# EAGLE library part KLEMME_5-5 (library e-klemmen)
Klemme 5 5
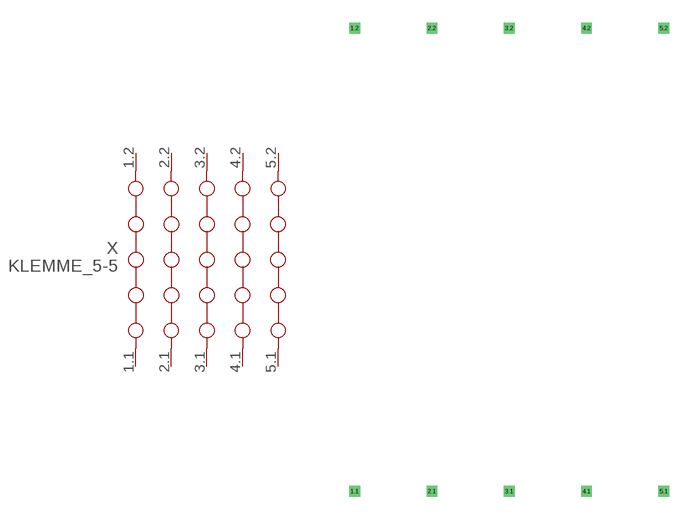
[diagram p11: symbol with the pads of KLEMME_5-5; footprint KLEMME_5-5]

Designator prefix X

## KLEMME_5-5  [KLEMME_5-5]
1.1  1.1  pas
1.2  1.2  pas
2.1  2.1  pas
2.2  2.2  pas
3.1  3.1  pas
3.2  3.2  pas
4.1  4.1  pas
4.2  4.2  pas
5.1  5.1  pas
5.2  5.2  pas

## Footprint KLEMME_5-5 (pad centres in mm)
Dummy
drill 0.2 pad 0.6 square: 1.1 0,-15.24; 1.2 0,15.24; 2.1 5.08,-15.24; 2.2 5.08,15.24; 3.1 10.16,-15.24; 3.2 10.16,15.24; 4.1 15.24,-15.24; 4.2 15.24,15.24; 5.1 20.32,-15.24; 5.2 20.32,15.24